# EAGLE library part MAX5216BGUAT (library EW_IC-ADC-DAC)
Single DAC, 16 bit, Low power, High performance, Buffered
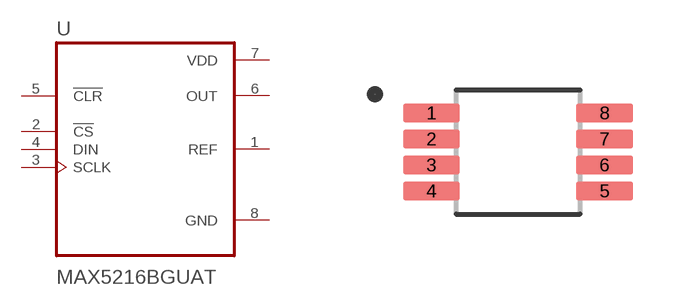
[diagram p4: symbol with the pads of SOP65P490X110-8N; footprint SOP65P490X110-8N]

Designator prefix U

## MAX5216BGUAT (AVAILABILITY: Unavailable; DESCRIPTION: 16-Bit, Low-Power, High-Performance, Buffered Single DAC; MF: Maxim Integrated; MP: MAX5216BGUA+; PACKAGE: &amp;MICRO;MAX-8 Maxim; PRICE: None)  [SOP65P490X110-8N]
1  REF  in
2  !CS  in
3  SCLK  in
4  DIN  in
5  !CLR  in
6  OUT  out
7  VDD  pwr
8  GND  pwr

## Footprint SOP65P490X110-8N (pad centres in mm)
smd 1.42 x 0.47: 1 -2.165,0.975; 2 -2.165,0.325; 3 -2.165,-0.325; 4 -2.165,-0.975; 5 2.165,-0.975; 6 2.165,-0.325; 7 2.165,0.325; 8 2.165,0.975